# Altium schematic symbol library ESP32-S3-PICO-1-N8R2.SchLib: 1 symbol
Pins are listed as number, name and electrical type; pins without a type are passive.

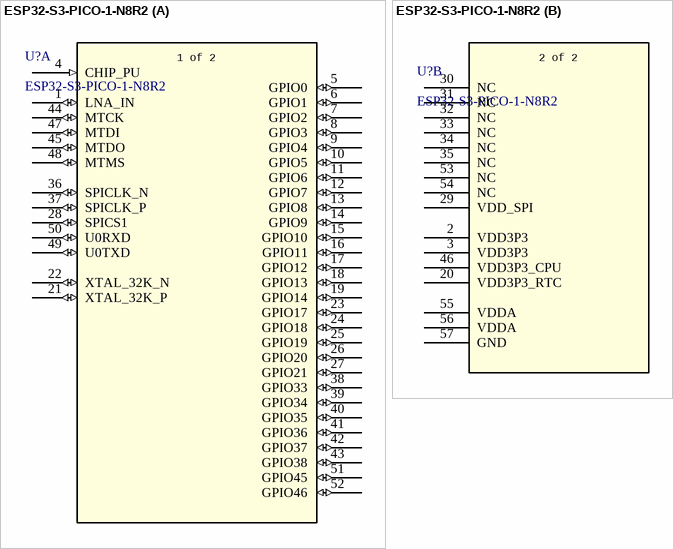
[diagram p0: symbol ESP32-S3-PICO-1-N8R2]

## ESP32-S3-PICO-1-N8R2
designator U?
Description; Manufacturer_Name: Espressif Systems; Copyright: Copyright (C) 2026 Ultra Librarian. All rights reserved.; Manufacturer_Part_Number: ESP32-S3-PICO-1-N8R2; RefDes: RefDes; Type: Type
footprint QFN56_7X7_EXP
part A pins: 1 LNA_IN (io), 4 CHIP_PU (in), 5 GPIO0 (io), 6 GPIO1 (io), 7 GPIO2 (io), 8 GPIO3 (io), 9 GPIO4 (io), 10 GPIO5 (io), 11 GPIO6 (io), 12 GPIO7 (io), 13 GPIO8 (io), 14 GPIO9 (io), 15 GPIO10 (io), 16 GPIO11 (io), 17 GPIO12 (io), 18 GPIO13 (io), 19 GPIO14 (io), 21 XTAL_32K_P (io), 22 XTAL_32K_N (io), 23 GPIO17 (io), 24 GPIO18 (io), 25 GPIO19 (io), 26 GPIO20 (io), 27 GPIO21 (io), 28 SPICS1 (io), 36 SPICLK_N (io), 37 SPICLK_P (io), 38 GPIO33 (io), 39 GPIO34 (io), 40 GPIO35 (io), 41 GPIO36 (io), 42 GPIO37 (io), 43 GPIO38 (io), 44 MTCK (io), 45 MTDO (io), 47 MTDI (io), 48 MTMS (io), 49 U0TXD (io), 50 U0RXD (io), 51 GPIO45 (io), 52 GPIO46 (io)
part B pins: 2 VDD3P3 (power), 3 VDD3P3 (power), 20 VDD3P3_RTC (power), 29 VDD_SPI (power), 30 NC, 31 NC, 32 NC, 33 NC, 34 NC, 35 NC, 46 VDD3P3_CPU (power), 53 NC, 54 NC, 55 VDDA (power), 56 VDDA (power), 57 GND (power)
part A text: 1 of 2
part B text: 2 of 2